# EAGLE library part ICL7660SCBAZ (library Intersil_By_element14_Batch_1)
CMOS VOLTAGE CONVERTER
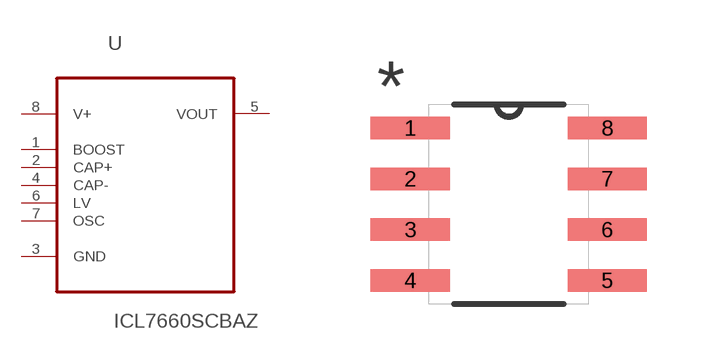
[diagram p187: symbol with the pads of SOIC127P600X175-8N; footprint SOIC127P600X175-8N]

Designator prefix U

## ICL7660SCBAZ (MPN: ICL7660SCBAZ; OC_FARNELL: 1561969; OC_NEWARK: 11J8885; PACKAGE: 8-SOIC; SUPPLIER: Intersil)  [SOIC127P600X175-8N]
1  BOOST  pwr
2  CAP+  pas
3  GND  pas
4  CAP-  pas
5  VOUT  out
6  LV  in
7  OSC  pas
8  V+  pwr

## Footprint SOIC127P600X175-8N (pad centres in mm)
smd 1.981 x 0.559: 1 -2.464,1.905; 2 -2.464,0.635; 3 -2.464,-0.635; 4 -2.464,-1.905; 5 2.464,-1.905; 6 2.464,-0.635; 7 2.464,0.635; 8 2.464,1.905